# Altium schematic symbol library LED 2835.SchLib: 1 symbol
Pins are listed as number, name and electrical type; pins without a type are passive.

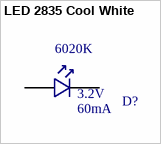
[diagram p0: symbol LED 2835 Cool White]

## LED 2835 Cool White
designator D?  Forward Voltage: 3.2V  Color Temperature: 6020K  Forward Current: 60mA  (hidden comment: LED 2835 Cool White)
LED Lighting - White, Cool 6020K (5300K ~ 7050K) 3.2V 60mA  1113 (2835 Metric); Manufacturer 1: QT Brightek (QTB); Manufacturer 1 PN: QBHP686-IWK-CW; ComponentLink1Description: Datasheet; ComponentLink1URL: http://www.qt-brightek.com/datasheet/QBHP686-IWK-XX.pdf; Digikey PN: 1516-1050-1-ND
footprint LED 2835 Cool White (LED Lighting - White, Cool 6020K (5300K ~ 7050K) 3.2V 60mA  1113 (2835 Metric))
pins: A, K